# Altium schematic symbol library OTHER.SchLib: 16 symbols
Pins are listed as number, name and electrical type; pins without a type are passive.

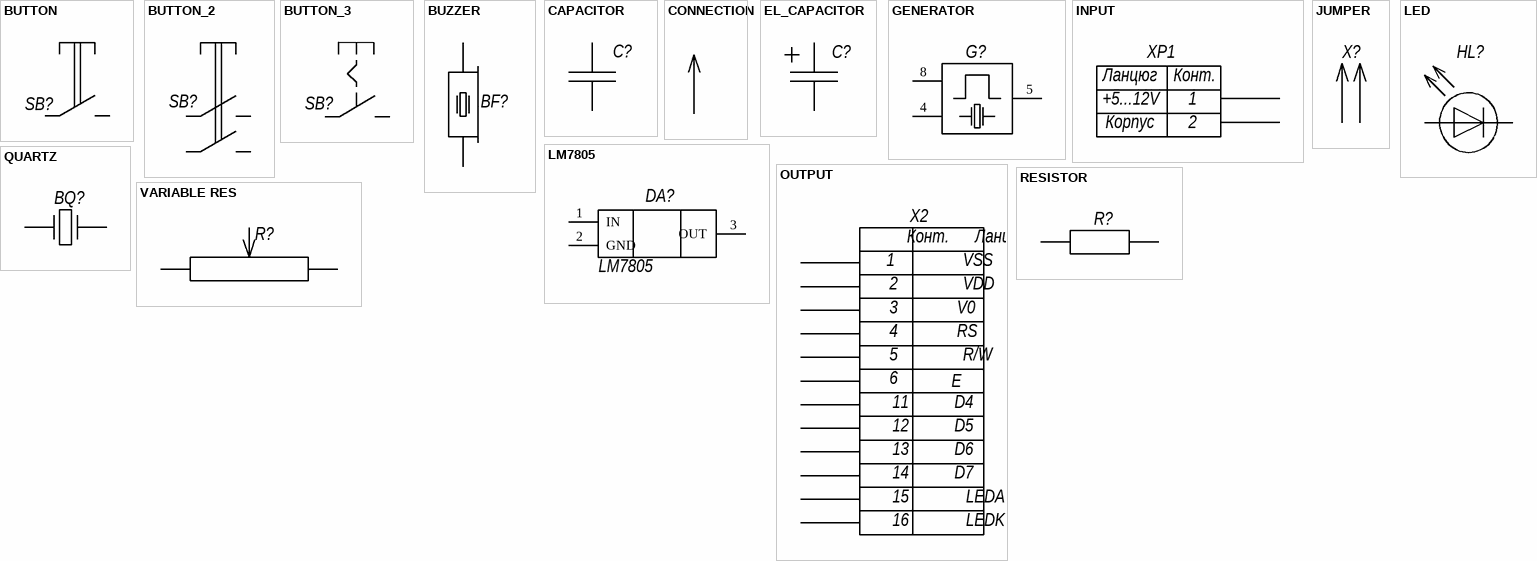
[diagram p0: symbols BUTTON to VARIABLE RES]

## BUTTON
designator SB?  (value not drawn)
Копка натискна
footprint BUTTON1
pins: 1, 2

## BUTTON_2
designator SB?  (value not drawn)
Копка натискна
footprint BUTTON2
pins: 1, 2, 3, 4

## BUTTON_3
designator SB?  (value not drawn)
Копка з фіксац
footprint BUTTON1
pins: 1, 2

## BUZZER
designator BF?  (value not drawn)
П'єзок.динамік
footprint BUZZER
pins: 1, 2

## CAPACITOR
designator C?
Конденс. керам.
footprint C0805 (Chip Capacitor; Body 2.0 x 1.2 mm (LxW typ))
pins: 1, 2

## CONNECTION
designator ?  (value not drawn)
Живлення

## EL_CAPACITOR
designator C?
Кондесатор елктр.
footprint ELECTROLITE
pins: 1, 2

## GENERATOR
designator G?  (value not drawn)
Генератор кварц
footprint ZZ105 (DIP; 14 Round Pins; Row Space 7.62 mm; Pitch 2.54 mm)
pins: 1 hidden, 4, 5, 8

## INPUT
designator XP1  (value not drawn)
footprint KLD-0202 (DC Power Jack, 2.5mm, KLD Series, PCB Mount)
pins: 1 INPUT1 (power), 2 INPUT2 (power), 3 INPUT3 hidden to GND
text: Ланцюг; Конт.; +5...12V; Корпус

## JUMPER
designator X?
Штирьовий роз'єм
footprint HDR1X2 (Connector; Header; 2 Position)
pins: 1, 2

## LED
designator HL?  (value not drawn)
Світлодіод
footprint C0805 - LED (Chip Capacitor; Body 2.0 x 1.2 mm (LxW typ))
pins: 1 A, 2 C

## LM7805
designator DA?
V_REGULATOR
footprint DPAK254P1054X203-3N (D-PAK, 3-Pads, Body 7,17x8,12mm (max), IPC Medium Density)
pins: 1 IN, 2 GND, 3 OUT

## OUTPUT
designator X2  (value not drawn)
footprint STECKER (DIP; 40 Leads; Row Spacing 15.24 mm; Pitch 2.54 mm)
pins: 1 OUTPUT1, 2 OUTPUT2, 3 OUTPUT3, 4 OUTPUT4, 5 OUTPUT5, 6 OUTPUT6, 7 OUTPUT7 hidden, 8 OUTPUT8 hidden, 9 OUTPUT9 hidden, 10 OUTPUT10 hidden, 11 OUTPUT11, 12 OUTPUT12, 13 OUTPUT13, 14 OUTPUT14, 15 OUTPUT15, 16 OUTPUT16
text: Конт.; Ланцюг; VSS; VDD; V0; RS; R/W; E; D4; D5; D6; D7; LEDA; LEDK

## QUARTZ
designator BQ?  (value not drawn)
Резонатор кварцевий
pins: ?1, ?2

## RESISTOR
designator R?
Резистор постійний
footprint C0805 (Chip Capacitor; Body 2.0 x 1.2 mm (LxW typ))
pins: 1, 2

## VARIABLE RES
designator R?
Резистор змінний
footprint V_RES
pins: 1, 2, 3